# Altium schematic symbol library MC33926.SchLib: 1 symbol
Pins are listed as number, name and electrical type; pins without a type are passive.

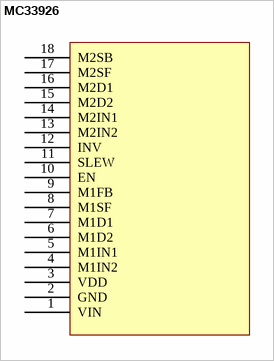
[diagram p0: symbol MC33926]

## MC33926
designator *  (value not drawn)
MC33926
footprint MC33926
pins: 1 VIN, 2 GND, 3 VDD, 4 M1IN2, 5 M1IN1, 6 M1D2, 7 M1D1, 8 M1SF, 9 M1FB, 10 EN, 11 SLEW, 12 INV, 13 M2IN2, 14 M2IN1, 15 M2D2, 16 M2D1, 17 M2SF, 18 M2SB